# EAGLE library part PIC24HJ128GP502-X_ML (library microchip2)
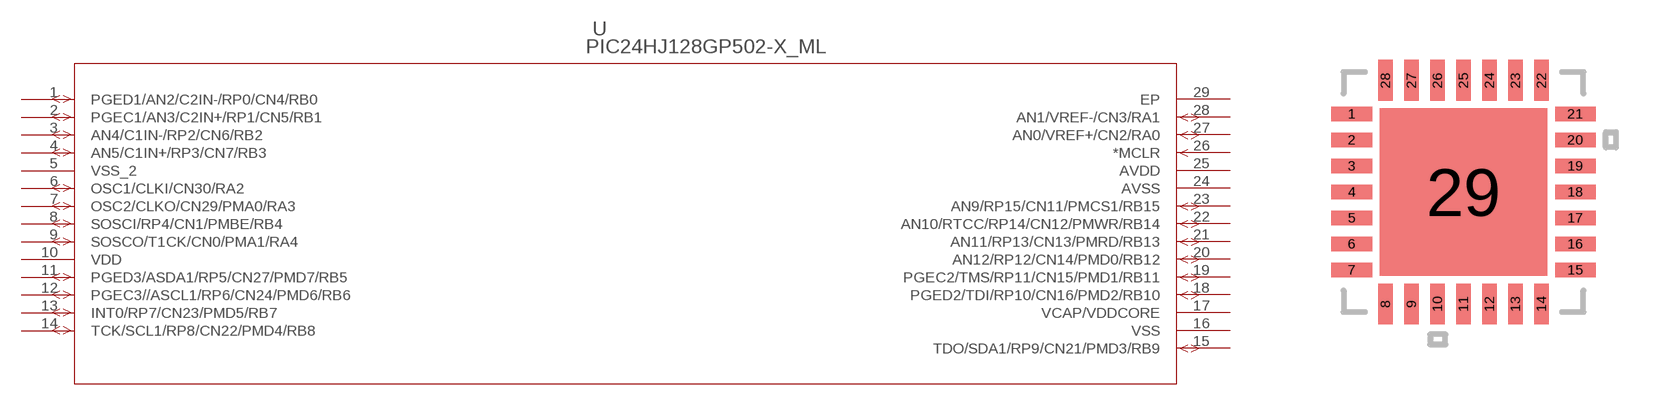
[diagram p1: symbol with the pads of QFN28_6X6MC; footprint QFN28_6X6MC]

Designator prefix -

## PIC24HJ128GP502-X_ML  [QFN28_6X6MC]
1  PGED1/AN2/C2IN-/RP0/CN4/RB0
2  PGEC1/AN3/C2IN+/RP1/CN5/RB1
3  AN4/C1IN-/RP2/CN6/RB2
4  AN5/C1IN+/RP3/CN7/RB3
5  VSS_2  pwr
6  OSC1/CLKI/CN30/RA2
7  OSC2/CLKO/CN29/PMA0/RA3
8  SOSCI/RP4/CN1/PMBE/RB4
9  SOSCO/T1CK/CN0/PMA1/RA4
10  VDD  pwr
11  PGED3/ASDA1/RP5/CN27/PMD7/RB5
12  PGEC3//ASCL1/RP6/CN24/PMD6/RB6
13  INT0/RP7/CN23/PMD5/RB7
14  TCK/SCL1/RP8/CN22/PMD4/RB8
15  TDO/SDA1/RP9/CN21/PMD3/RB9
16  VSS  pwr
17  VCAP/VDDCORE  pwr
18  PGED2/TDI/RP10/CN16/PMD2/RB10
19  PGEC2/TMS/RP11/CN15/PMD1/RB11
20  AN12/RP12/CN14/PMD0/RB12
21  AN11/RP13/CN13/PMRD/RB13
22  AN10/RTCC/RP14/CN12/PMWR/RB14
23  AN9/RP15/CN11/PMCS1/RB15
24  AVSS  pwr
25  AVDD  pwr
26  *MCLR  in
27  AN0/VREF+/CN2/RA0
28  AN1/VREF-/CN3/RA1
29  EP  pas

## Footprint QFN28_6X6MC (pad centres in mm)
smd 1.016 x 0.356: 1 -2.794,1.95; 2 -2.794,1.3; 3 -2.794,0.65; 4 -2.794,0; 5 -2.794,-0.65; 6 -2.794,-1.3; 7 -2.794,-1.95; 15 2.794,-1.95; 16 2.794,-1.3; 17 2.794,-0.65; 18 2.794,0; 19 2.794,0.65; 20 2.794,1.3; 21 2.794,1.95
smd 0.356 x 1.016: 8 -1.95,-2.794; 9 -1.3,-2.794; 10 -0.65,-2.794; 11 0,-2.794; 12 0.65,-2.794; 13 1.3,-2.794; 14 1.95,-2.794; 22 1.95,2.794; 23 1.3,2.794; 24 0.65,2.794; 25 0,2.794; 26 -0.65,2.794; 27 -1.3,2.794; 28 -1.95,2.794
smd 4.191 x 4.191: 29 0,0